# EAGLE library part CD2109 (library caracas)
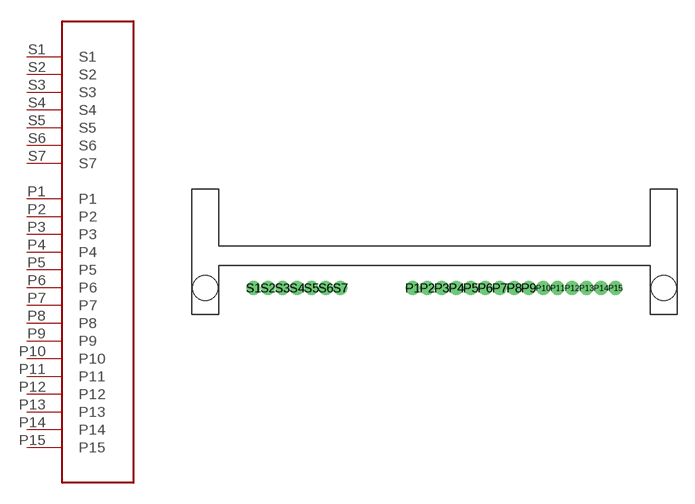
[diagram p0: symbol with the pads of CD2109; footprint CD2109]

Designator prefix -

## CD2109  [CD2109]
P1  P1
P2  P2
P3  P3
P4  P4
P5  P5
P6  P6
P7  P7
P8  P8
P9  P9
P10  P10
P11  P11
P12  P12
P13  P13
P14  P14
P15  P15
S1  S1
S2  S2
S3  S3
S4  S4
S5  S5
S6  S6
S7  S7

## Footprint CD2109 (pad centres in mm)
drill 0.7 pad 0.813: P1 -2.405,-2.9; P2 -1.135,-2.9; P3 0.135,-2.9; P4 1.405,-2.9; P5 2.675,-2.9; P6 3.945,-2.9; P7 5.215,-2.9; P8 6.485,-2.9; P9 7.755,-2.9; P10 9.025,-2.9; P11 10.295,-2.9; P12 11.565,-2.9; P13 12.835,-2.9; P14 14.105,-2.9; P15 15.375,-2.9; S1 -16.375,-2.9; S2 -15.105,-2.9; S3 -13.835,-2.9; S4 -12.565,-2.9; S5 -11.295,-2.9; S6 -10.025,-2.9; S7 -8.755,-2.9
hole 2.2 at 19.6,-2.9
hole 2.2 at -20.6,-2.9